# Altium footprint library S275146R.PcbLib: 1 footprints
Each footprint in its own frame and in the unit in brackets; x right, y up, seen from the top. Pads: shape width x height; smd on the part's side, far side on the other; paste and mask are expansions set on the pad; w line width, h text height; cw(c..) or ccw(c..) is an arc to the next point about the centre after c.
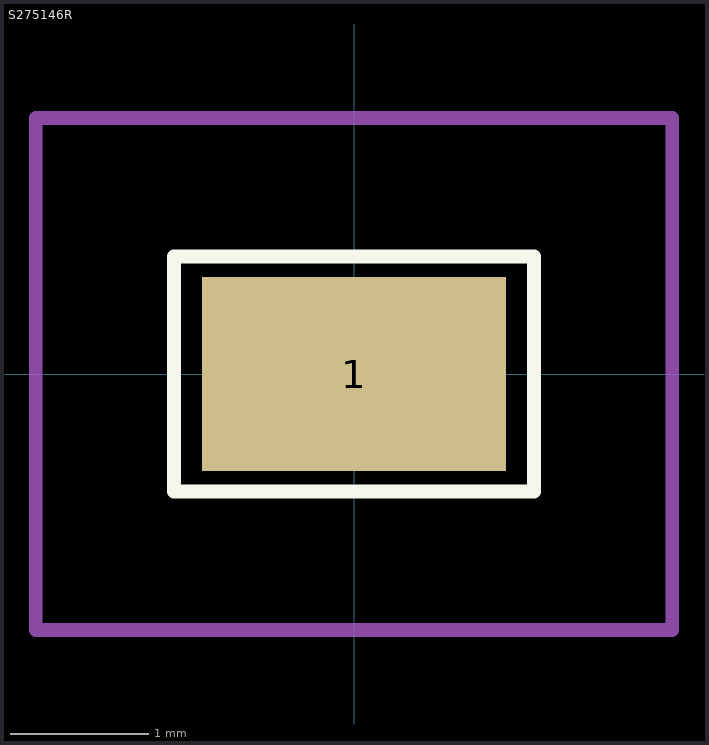
[diagram p0: the footprint, top view; thin cyan lines are the x and y axes]

## S275146R [mm]
pads (1):
  rect 2.2x1.4 smd: 1(0,0)
Top Overlay:
  lines w0.1: -1.3,-0.85 1.3,-0.85 1.3,0.85 -1.3,0.85 -1.3,-0.85
Mechanical 15:
  lines w0.2: -1,-0.6 1,-0.6 1,0.6 -1,0.6 -1,-0.6
Mechanical 20:
  lines w0.1: -2.3,-1.85 2.3,-1.85 2.3,1.85 -2.3,1.85 -2.3,-1.85